# Altium schematic symbol library 3v3_USB -MCP1700T.SchLib: 2 symbols
Pins are listed as number, name and electrical type; pins without a type are passive.

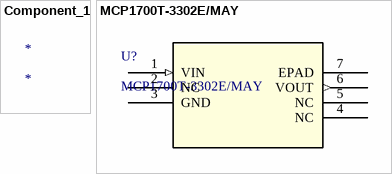
[diagram p0: symbols Component_1 to MCP1700T-3302E/MAY]

## Component_1
designator *

## MCP1700T-3302E/MAY
designator U?
No Description Available; Vendor: Microchip; Built_By: EMA_Jessica; SourceLibrary: Microchip_2019-08-23_21; Manufacturer_Part_Number: MCP1700T-3302E/MAY; Copyright: Copyright (C) 2018 Accelerated Designs. All rights reserved; RefDes: RefDes; Type: DEV
footprint DFN-S6_2x2MC_MCH-M
pins: 1 VIN (in), 2 NC, 3 GND (power), 4 NC, 5 NC, 6 VOUT (out), 7 EPAD